# Altium footprint library Diodes.PcbLib: 10 footprints
Each footprint in its own frame and in the unit in brackets; x right, y up, seen from the top. Pads: shape width x height; smd on the part's side, far side on the other; paste and mask are expansions set on the pad; w line width, h text height; cw(c..) or ccw(c..) is an arc to the next point about the centre after c.
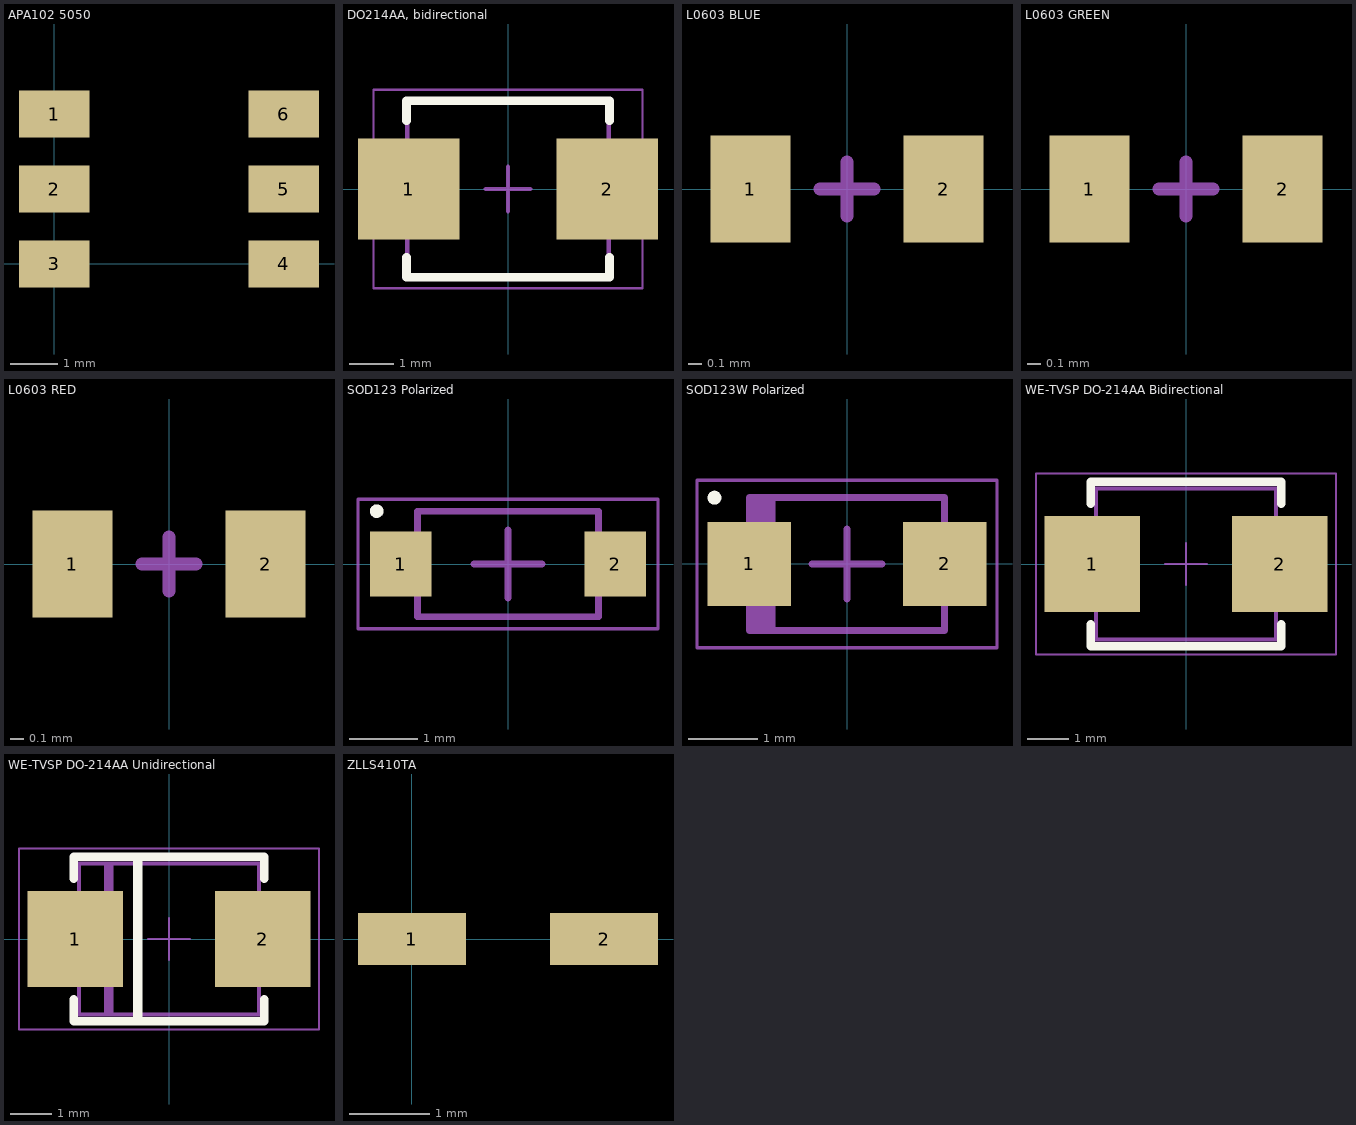
[diagram p0: the footprints below, top view; thin cyan lines are the x and y axes]

## APA102 5050 [mm]
pads (6):
  rect 1.5x1 smd: 1(0,3.2) 2(0,1.6) 3(0,0) 4(4.9,0) 5(4.9,1.6) 6(4.9,3.2)
3D body "User Library-APA102C.step": height 1.4, standoff -0.15, extent -0.35,-0.9 5.15,4.1

## DO214AA, bidirectional [mm] "DO214AA, bidirectional"
height 2.65
pads (2):
  rect 2.3x2.3 smd: 1(-2.25,0) 2(2.25,0)
Top Overlay:
  lines w0.2: -2.3,-1.55 -2.3,-2 2.3,-2 2.3,-1.55 ; -2.3,1.55 -2.3,2 2.3,2 2.3,1.55
Top Courtyard:
  lines w0.05: -3.05,-2.25 3.05,-2.25 3.05,2.25 -3.05,2.25 -3.05,-2.25
  lines w0.1: -0.5,0 0.5,0 ; 0,-0.5 0,0.5
Mechanical 13:
  lines w0.1: -2.285,-1.97 2.285,-1.97 2.285,1.97 -2.285,1.97 -2.285,-1.97
3D body "DO214AA, bidirectional.step": height 2.65, standoff 0, extent -2.505,-1.97 2.505,1.97

## L0603 BLUE [mm]
pads (2):
  rect 0.6x0.8 smd: 1(-0.725,0) 2(0.725,0)
Top Courtyard:
  lines w0.1: -0.2,0 0.2,0 ; 0,-0.2 0,0.2
3D body "User Library-LED_0603_B.STEP": height 0.6, standoff 0, extent -0.8,-0.4 0.8,0.4

## L0603 GREEN [mm]
pads (2):
  rect 0.6x0.8 smd: 1(-0.725,0) 2(0.725,0)
Top Courtyard:
  lines w0.1: -0.2,0 0.2,0 ; 0,-0.2 0,0.2
3D body "User Library-LED_0603_G.STEP": height 0.6, standoff 0, extent -0.8,-0.4 0.8,0.4

## L0603 RED [mm]
pads (2):
  rect 0.6x0.8 smd: 1(-0.725,0) 2(0.725,0)
Top Courtyard:
  lines w0.1: -0.2,0 0.2,0 ; 0,-0.2 0,0.2
3D body "User Library-LED_0603_R.STEP": height 0.6, standoff 0, extent -0.8,-0.4 0.8,0.4

## SOD123 Polarized [mm] "SOD123, medium density"
height 1.05
pads (2):
  rect 0.9x0.95 smd: 1(-1.575,0) 2(1.575,0)
Top Overlay:
  circle w0.1: c-1.925,0.775 r0.05
Top Courtyard:
  lines w0.05: -2.2,-0.95 -2.2,0.95 2.2,0.95 2.2,-0.95 -2.2,-0.95
  lines w0.1: -0.5,0 0.5,0 ; 0,-0.5 0,0.5
Mechanical 13:
  lines w0.1: -1.325,-0.775 -1.325,0.775 1.325,0.775 1.325,-0.775 -1.325,-0.775
3D body "SOD123.step": height 1.05, standoff 0, extent -1.8,-0.775 1.8,0.775

## SOD123W Polarized [mm]
height 1.1
pads (2):
  rect 1.2x1.2 smd: 1(-1.4,0) 2(1.4,0)
Top Overlay:
  circle w0.1: c-1.9,0.95 r0.05
Top Courtyard:
  lines w0.05: -2.15,-1.2 2.15,-1.2 2.15,1.2 -2.15,1.2 -2.15,-1.2
  lines w0.1: -0.5,0 0.5,0 ; 0,-0.5 0,0.5
Mechanical 13:
  rectangle: -1.4,-0.95 -1.023,0.95
  lines w0.1: -1.4,-0.95 1.4,-0.95 1.4,0.95 -1.4,0.95 -1.4,-0.95
3D body "SOD123W Polarized.step": height 1.1, standoff 0, extent -1.62,-0.95 1.62,0.95

## WE-TVSP DO-214AA Bidirectional [mm] "Power TVS Diode, 2-Leads. body 4.32x3.62mm"
height 2.65
pads (2):
  rect 2.3x2.3 smd: 1(-2.25,0) 2(2.25,0)
Top Overlay:
  lines w0.2: -2.285,-1.45 -2.285,-1.97 2.285,-1.97 2.285,-1.45 ; -2.285,1.45 -2.285,1.97 2.285,1.97 2.285,1.45
Mechanical 11:
  lines w0.1: -2.16,-1.81 -2.16,1.81 2.16,1.81 2.16,-1.81 -2.16,-1.81
  text ".Designator" at -1.27,-0.381 h0.76
Mechanical 15:
  lines w0.05: -0.5,0 0.5,0 ; 0,-0.5 0,0.5 ; -3.6,-2.17 -3.6,2.17 3.6,2.17 3.6,-2.17 -3.6,-2.17
3D body "WE-TVSP_DO-214AA_Bidirectional.stp": height 2.38, standoff -0.01, extent -2.7,-1.81 2.7,1.81

## WE-TVSP DO-214AA Unidirectional [mm] "Power TVS Diode, 2-Leads. body 4.32x3.62mm"
height 2.65
pads (2):
  rect 2.3x2.3 smd: 1(-2.25,0) 2(2.25,0)
Top Overlay:
  rectangle: -0.865,-1.97 -0.635,1.97
  lines w0.2: -2.285,-1.45 -2.285,-1.97 2.285,-1.97 2.285,-1.45 ; -2.285,1.45 -2.285,1.97 2.285,1.97 2.285,1.45
Mechanical 11:
  rectangle: -1.565,-1.81 -1.335,1.81
  lines w0.1: -2.16,-1.81 -2.16,1.81 2.16,1.81 2.16,-1.81 -2.16,-1.81
  text ".Designator" at -1.27,-0.381 h0.76
Mechanical 15:
  lines w0.05: -0.5,0 0.5,0 ; 0,-0.5 0,0.5 ; -3.6,-2.17 -3.6,2.17 3.6,2.17 3.6,-2.17 -3.6,-2.17
3D body "WE-TVSP_DO-214AA_Unidirectional.stp": height 2.38, standoff -0.01, extent -2.7,-1.81 2.7,1.81

## ZLLS410TA [mm] "SOD-323, 2 pins"
pads (2):
  rect 1.35x0.65 smd: 1(0,0) 2(2.4,0)
3D body "User Library-Mini2-F4-B.STEP": height 0.8, standoff -0.03, extent -0.56,-0.81 2.94,0.79